# Altium schematic symbol library Device.SchLib: 595 symbols (part 4 of 4)
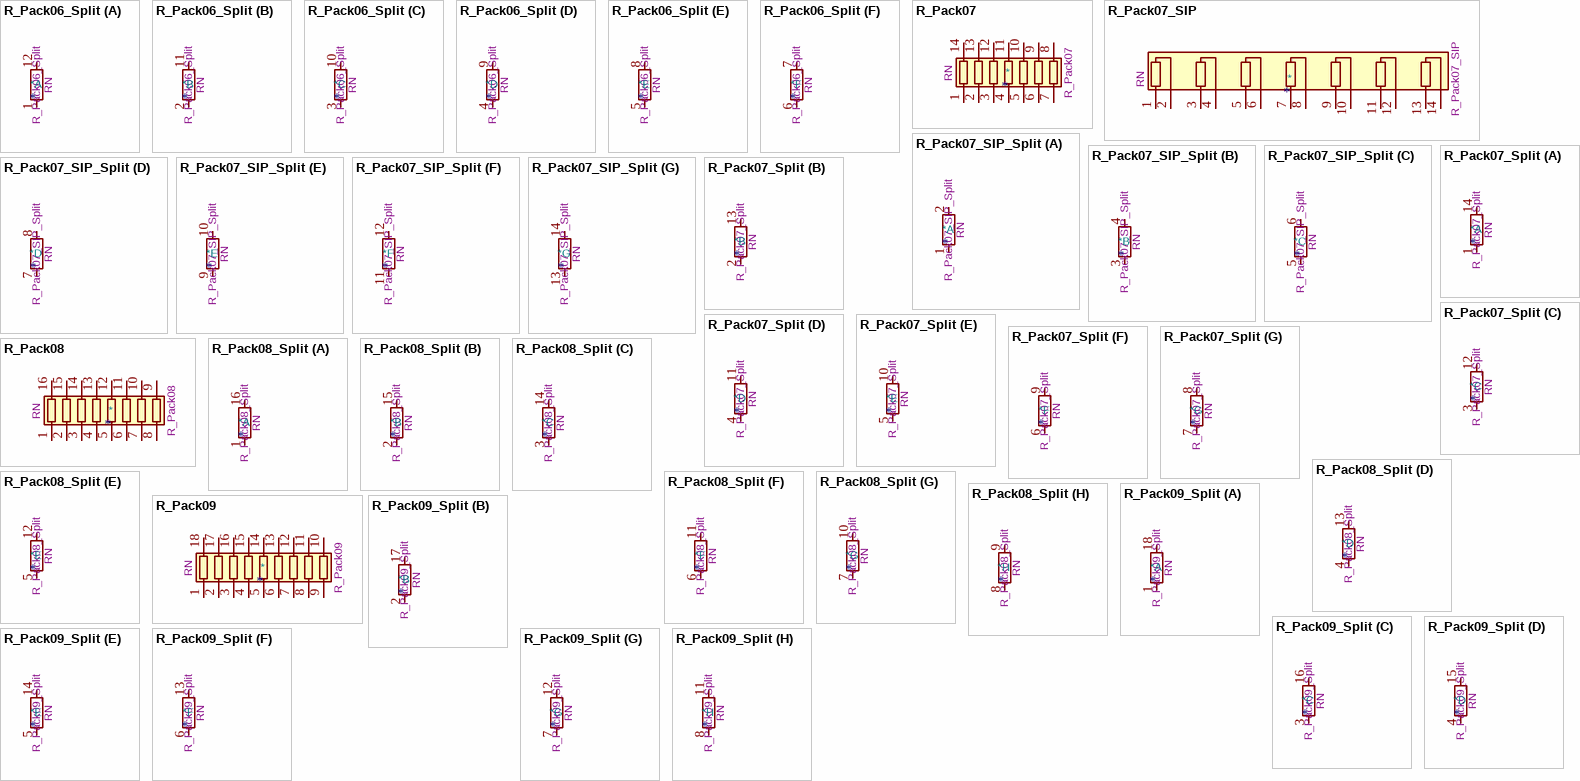
[diagram p23: symbols R_Pack06_Split to R_Pack09_Split]

## R_Pack07_SIP
designator *  value R_Pack07_SIP  Reference: RN
7 resistor network, parallel topology, SIP package; ki_keywords: R network parallel topology isolated; ki_fp_filters: R?Array?SIP*; Footprint: Resistor_THT:R_Array_SIP14; Datasheet: http://www.vishay.com/docs/31509/csc.pdf; Description_: 7 resistor network, parallel topology, SIP package
pins: 1 R1.1, 2 R1.2, 3 R2.1, 4 R2.2, 5 R3.1, 6 R3.2, 7 R4.1, 8 R4.2, 9 R5.1, 10 R5.2, 11 R6.1, 12 R6.2, 13 R7.1, 14 R7.2

## R_Pack07_SIP_Split
designator *  value R_Pack07_SIP_Split  Reference: RN
7 resistor network, parallel topology, SIP package, split; ki_keywords: R network parallel topology isolated; ki_fp_filters: R?Array?SIP*; Footprint: Resistor_THT:R_Array_SIP14; Datasheet: http://www.vishay.com/docs/31509/csc.pdf; Description_: 7 resistor network, parallel topology, SIP package, split
part A pins: 1 R1.1, 2 R1.2
part B pins: 3 R2.1, 4 R2.2
part C pins: 5 R3.1, 6 R3.2
part D pins: 7 R4.1, 8 R4.2
part E pins: 9 R5.1, 10 R5.2
part F pins: 11 R6.1, 12 R6.2
part G pins: 13 R7.1, 14 R7.2

## R_Pack07_Split
designator *  value R_Pack07_Split  Reference: RN
7 resistor network, parallel topology, split; ki_keywords: R network parallel topology isolated; ki_fp_filters: DIP* SOIC* R*Array*Concave* R*Array*Convex*; Datasheet: ~; Description_: 7 resistor network, parallel topology, split
part A pins: 1 R1.1, 14 R1.2
part B pins: 2 R2.1, 13 R2.2
part C pins: 3 R3.1, 12 R3.2
part D pins: 4 R4.1, 11 R4.2
part E pins: 5 R5.1, 10 R5.2
part F pins: 6 R6.1, 9 R6.2
part G pins: 7 R7.1, 8 R7.2

## R_Pack08
designator *  value R_Pack08  Reference: RN
8 resistor network, parallel topology; ki_keywords: R network parallel topology isolated; ki_fp_filters: DIP* SOIC* R*Array*Concave* R*Array*Convex*; Datasheet: ~; Description_: 8 resistor network, parallel topology
pins: 1 R1.1, 2 R2.1, 3 R3.1, 4 R4.1, 5 R5.1, 6 R6.1, 7 R7.1, 8 R8.1, 9 R8.2, 10 R7.2, 11 R6.2, 12 R5.2, 13 R4.2, 14 R3.2, 15 R2.2, 16 R1.2

## R_Pack08_Split
designator *  value R_Pack08_Split  Reference: RN
8 resistor network, parallel topology, split; ki_keywords: R network parallel topology isolated; ki_fp_filters: DIP* SOIC* R*Array*Concave* R*Array*Convex*; Datasheet: ~; Description_: 8 resistor network, parallel topology, split
part A pins: 1 R1.1, 16 R1.2
part B pins: 2 R2.1, 15 R2.2
part C pins: 3 R3.1, 14 R3.2
part D pins: 4 R4.1, 13 R4.2
part E pins: 5 R5.1, 12 R5.2
part F pins: 6 R6.1, 11 R6.2
part G pins: 7 R7.1, 10 R7.2
part H pins: 8 R8.1, 9 R8.2

## R_Pack09
designator *  value R_Pack09  Reference: RN
9 resistor network, parallel topology; ki_keywords: R network parallel topology isolated; ki_fp_filters: DIP* SOIC* R*Array*Concave* R*Array*Convex*; Datasheet: ~; Description_: 9 resistor network, parallel topology
pins: 1 R1.1, 2 R2.1, 3 R3.1, 4 R4.1, 5 R5.1, 6 R6.1, 7 R7.1, 8 R8.1, 9 R9.1, 10 R9.2, 11 R8.2, 12 R7.2, 13 R6.2, 14 R5.2, 15 R4.2, 16 R3.2, 17 R2.2, 18 R1.2

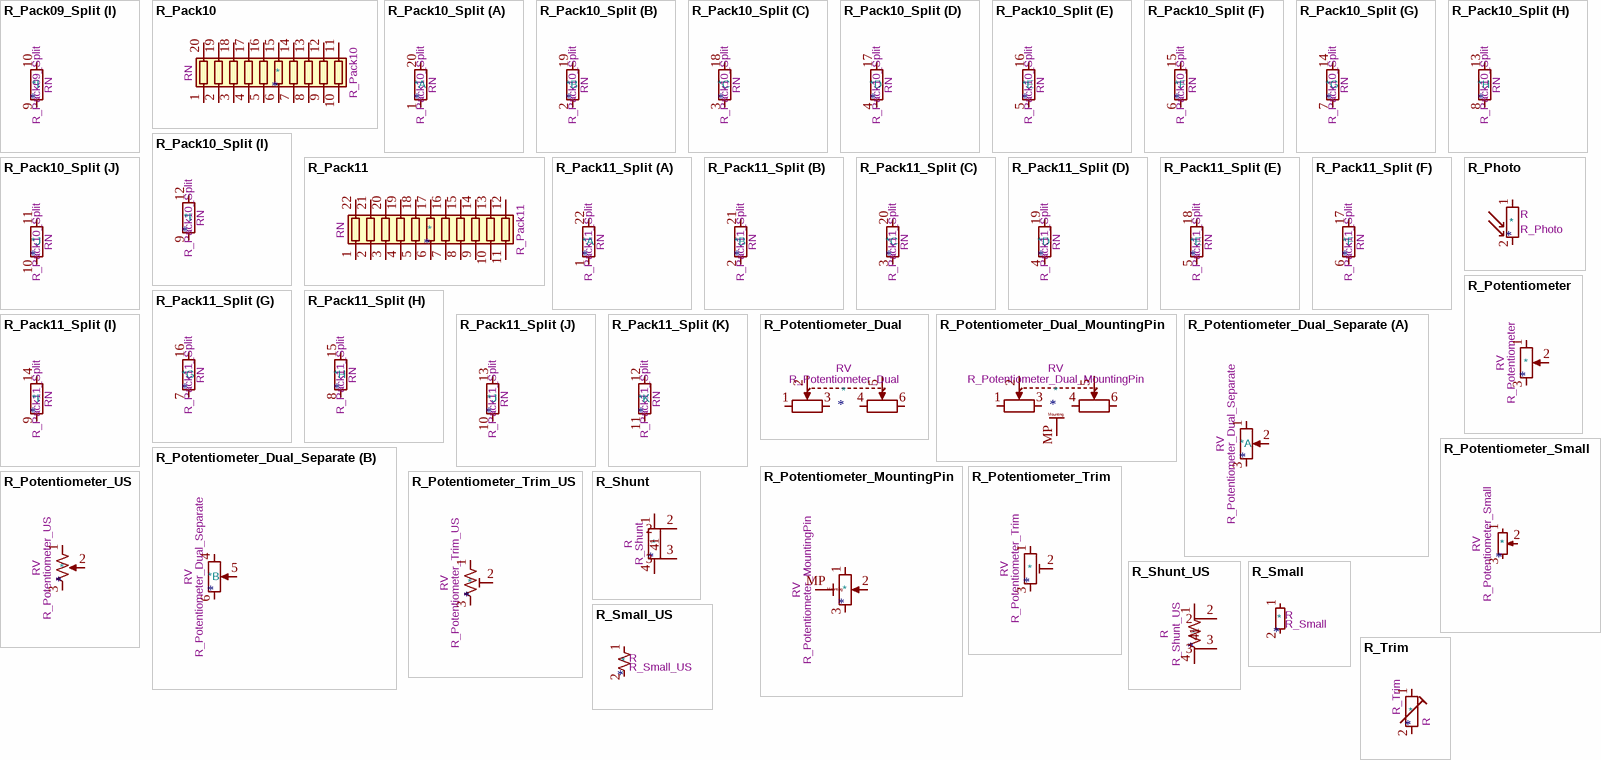
[diagram p18: symbols R_Pack09_Split to R_Trim]

## R_Pack09_Split
designator *  value R_Pack09_Split  Reference: RN
9 resistor network, parallel topology, split; ki_keywords: R network parallel topology isolated; ki_fp_filters: DIP* SOIC* R*Array*Concave* R*Array*Convex*; Datasheet: ~; Description_: 9 resistor network, parallel topology, split
part A pins: 1 R1.1, 18 R1.2
part B pins: 2 R2.1, 17 R2.2
part C pins: 3 R3.1, 16 R3.2
part D pins: 4 R4.1, 15 R4.2
part E pins: 5 R5.1, 14 R5.2
part F pins: 6 R6.1, 13 R6.2
part G pins: 7 R7.1, 12 R7.2
part H pins: 8 R8.1, 11 R8.2
part I pins: 9 R9.1, 10 R9.2

## R_Pack10
designator *  value R_Pack10  Reference: RN
10 resistor network, parallel topology; ki_keywords: R network parallel topology isolated; ki_fp_filters: DIP* SOIC* R*Array*Concave* R*Array*Convex*; Datasheet: ~; Description_: 10 resistor network, parallel topology
pins: 1 R1.1, 2 R2.1, 3 R3.1, 4 R4.1, 5 R5.1, 6 R6.1, 7 R7.1, 8 R8.1, 9 R9.1, 10 R10.1, 11 R10.2, 12 R9.2, 13 R8.2, 14 R7.2, 15 R6.2, 16 R5.2, 17 R4.2, 18 R3.2, 19 R2.2, 20 R1.2

## R_Pack10_Split
designator *  value R_Pack10_Split  Reference: RN
10 resistor network, parallel topology, split; ki_keywords: R network parallel topology isolated; ki_fp_filters: DIP* SOIC* R*Array*Concave* R*Array*Convex*; Datasheet: ~; Description_: 10 resistor network, parallel topology, split
part A pins: 1 R1.1, 20 R1.2
part B pins: 2 R2.1, 19 R2.2
part C pins: 3 R3.1, 18 R3.2
part D pins: 4 R4.1, 17 R4.2
part E pins: 5 R5.1, 16 R5.2
part F pins: 6 R6.1, 15 R6.2
part G pins: 7 R7.1, 14 R7.2
part H pins: 8 R8.1, 13 R8.2
part I pins: 9 R9.1, 12 R9.2
part J pins: 10 R10.1, 11 R10.2

## R_Pack11
designator *  value R_Pack11  Reference: RN
11 resistor network, parallel topology; ki_keywords: R network parallel topology isolated; ki_fp_filters: DIP* SOIC* R*Array*Concave* R*Array*Convex*; Datasheet: ~; Description_: 11 resistor network, parallel topology
pins: 1 R1.1, 2 R2.1, 3 R3.1, 4 R4.1, 5 R5.1, 6 R6.1, 7 R7.1, 8 R8.1, 9 R9.1, 10 R10.1, 11 R11.1, 12 R11.2, 13 R10.2, 14 R9.2, 15 R8.2, 16 R7.2, 17 R6.2, 18 R5.2, 19 R4.2, 20 R3.2, 21 R2.2, 22 R1.2

## R_Pack11_Split
designator *  value R_Pack11_Split  Reference: RN
11 resistor network, parallel topology, split; ki_keywords: R network parallel topology isolated; ki_fp_filters: DIP* SOIC* R*Array*Concave* R*Array*Convex*; Datasheet: ~; Description_: 11 resistor network, parallel topology, split
part A pins: 1 R1.1, 22 R1.2
part B pins: 2 R2.1, 21 R2.2
part C pins: 3 R3.1, 20 R3.2
part D pins: 4 R4.1, 19 R4.2
part E pins: 5 R5.1, 18 R5.2
part F pins: 6 R6.1, 17 R6.2
part G pins: 7 R7.1, 16 R7.2
part H pins: 8 R8.1, 15 R8.2
part I pins: 9 R9.1, 14 R9.2
part J pins: 10 R10.1, 13 R10.2
part K pins: 11 R11.1, 12 R11.2

## R_Photo
designator *  value R_Photo  Reference: R
Photoresistor; ki_keywords: resistor variable light sensitive opto LDR; ki_fp_filters: *LDR* R?LDR*; Datasheet: ~; Description_: Photoresistor
pins: 1, 2

## R_Potentiometer
designator *  value R_Potentiometer  Reference: RV
Potentiometer; ki_keywords: resistor variable; ki_fp_filters: Potentiometer*; Datasheet: ~; Description_: Potentiometer
pins: 1, 2, 3

## R_Potentiometer_Dual
designator *  value R_Potentiometer_Dual  Reference: RV
Dual potentiometer; ki_keywords: resistor variable; ki_fp_filters: Potentiometer*; Datasheet: ~; Description_: Dual potentiometer
pins: 1, 2, 3, 4, 5, 6

## R_Potentiometer_Dual_MountingPin
designator *  value R_Potentiometer_Dual_MountingPin  Reference: RV
Dual potentiometer with a mounting pin; ki_keywords: resistor variable; ki_fp_filters: Potentiometer*; Datasheet: ~; Description_: Dual potentiometer with a mounting pin
pins: 1, 2, 3, 4, 5, 6, MP MountPin
text: Mounting

## R_Potentiometer_Dual_Separate
designator *  value R_Potentiometer_Dual_Separate  Reference: RV
Dual potentiometer, separate units; ki_keywords: resistor variable; ki_fp_filters: Potentiometer*; Datasheet: ~; Description_: Dual potentiometer, separate units
part A pins: 1, 2, 3
part B pins: 4, 5, 6

## R_Potentiometer_MountingPin
designator *  value R_Potentiometer_MountingPin  Reference: RV
Potentiometer with a mounting pin; ki_keywords: resistor variable; ki_fp_filters: Potentiometer*; Datasheet: ~; Description_: Potentiometer with a mounting pin
pins: 1, 2, 3, MP MountPin
text: Mounting

## R_Potentiometer_Small
designator *  value R_Potentiometer_Small  Reference: RV
Potentiometer; ki_keywords: resistor variable; ki_fp_filters: Potentiometer*; Datasheet: ~; Description_: Potentiometer
pins: 1, 2, 3

## R_Potentiometer_Trim
designator *  value R_Potentiometer_Trim  Reference: RV
Trim-potentiometer; ki_keywords: resistor variable trimpot trimmer; ki_fp_filters: Potentiometer*; Datasheet: ~; Description_: Trim-potentiometer
pins: 1, 2, 3

## R_Potentiometer_Trim_US
designator *  value R_Potentiometer_Trim_US  Reference: RV
Trim-potentiometer, US symbol; ki_keywords: resistor variable trimpot trimmer; ki_fp_filters: Potentiometer*; Datasheet: ~; Description_: Trim-potentiometer, US symbol
pins: 1, 2, 3

## R_Potentiometer_US
designator *  value R_Potentiometer_US  Reference: RV
Potentiometer, US symbol; ki_keywords: resistor variable; ki_fp_filters: Potentiometer*; Datasheet: ~; Description_: Potentiometer, US symbol
pins: 1, 2, 3

## R_Shunt
designator *  value R_Shunt  Reference: R
Shunt resistor; ki_keywords: R res shunt resistor; ki_fp_filters: R_*Shunt*; Datasheet: ~; Description_: Shunt resistor
pins: 1, 2, 3, 4

## R_Shunt_US
designator *  value R_Shunt_US  Reference: R
Shunt resistor, US symbol; ki_keywords: R res shunt resistor; ki_fp_filters: R_*Shunt*; Datasheet: ~; Description_: Shunt resistor, US symbol
pins: 1, 2, 3, 4

## R_Small
designator *  value R_Small  Reference: R
Resistor, small symbol; ki_keywords: R resistor; ki_fp_filters: R_*; Datasheet: ~; Description_: Resistor, small symbol
pins: 1, 2

## R_Small_US
designator *  value R_Small_US  Reference: R
Resistor, small US symbol; ki_keywords: r resistor; ki_fp_filters: R_*; Datasheet: ~; Description_: Resistor, small US symbol
pins: 1, 2

## R_Trim
designator *  value R_Trim  Reference: R
Trimmable resistor (preset resistor); ki_keywords: R res resistor variable potentiometer trimmer; ki_fp_filters: R_*; Datasheet: ~; Description_: Trimmable resistor (preset resistor)
pins: 1, 2

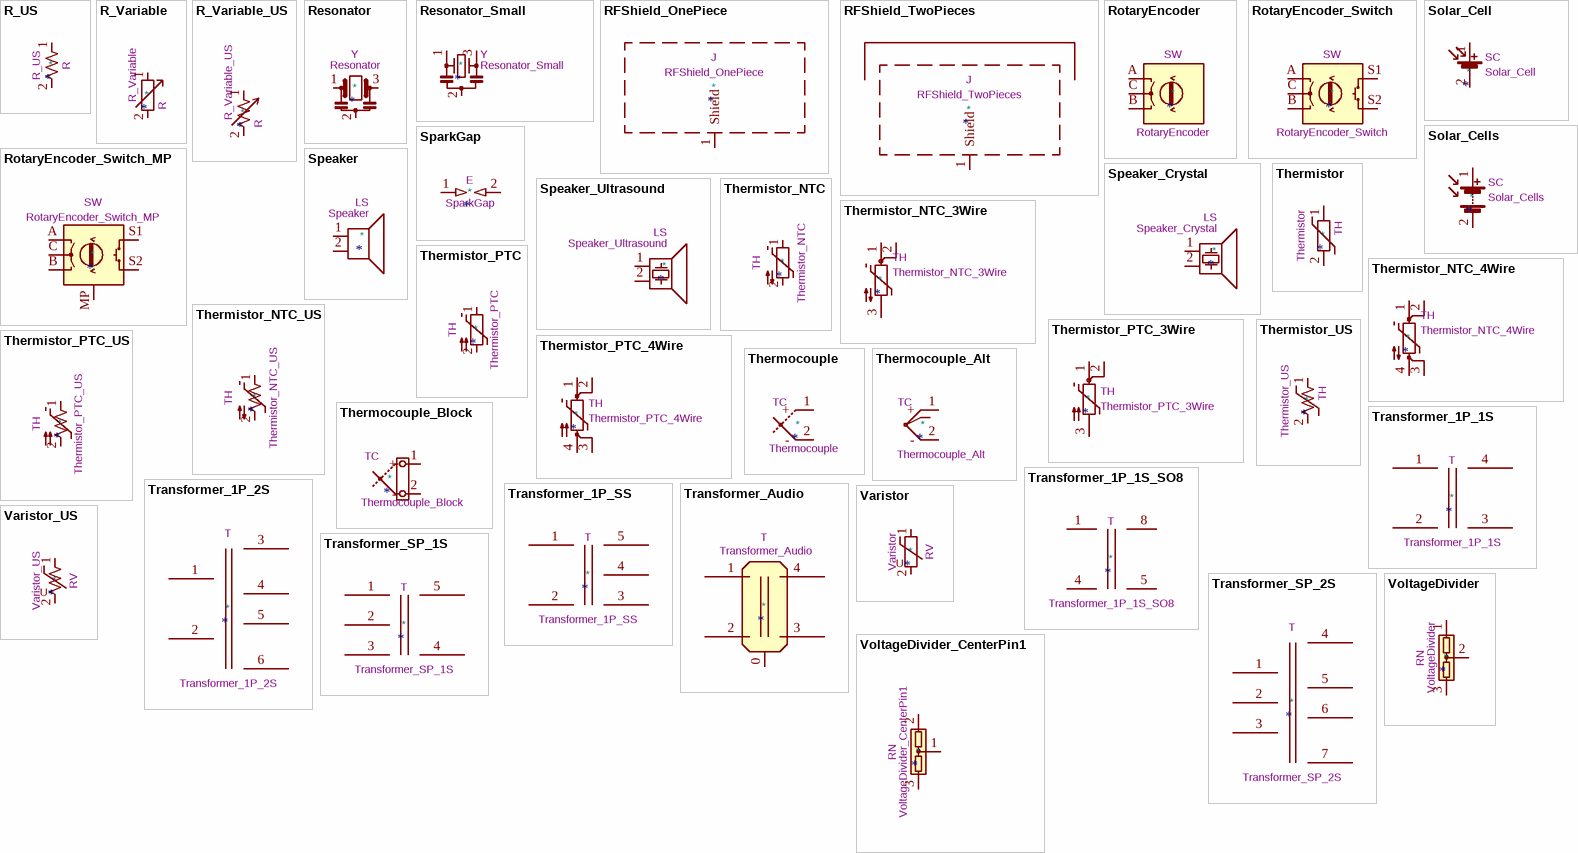
[diagram p19: symbols R_US to VoltageDivider_CenterPin1]

## R_US
designator *  value R_US  Reference: R
Resistor, US symbol; ki_keywords: R res resistor; ki_fp_filters: R_*; Datasheet: ~; Description_: Resistor, US symbol
pins: 1, 2

## R_Variable
designator *  value R_Variable  Reference: R
Variable resistor; ki_keywords: R res resistor variable potentiometer rheostat; ki_fp_filters: R_*; Datasheet: ~; Description_: Variable resistor
pins: 1, 2

## R_Variable_US
designator *  value R_Variable_US  Reference: R
Variable resistor, US symbol; ki_keywords: R res resistor variable potentiometer rheostat; ki_fp_filters: R_*; Datasheet: ~; Description_: Variable resistor, US symbol
pins: 1, 2

## Resonator
designator *  value Resonator  Reference: Y
Three pin ceramic resonator; ki_fp_filters: Filter* Resonator*; Datasheet: ~; Description_: Three pin ceramic resonator; ki_keywords: ceramic resonator
pins: 1, 2, 3

## Resonator_Small
designator *  value Resonator_Small  Reference: Y
Three pin ceramic resonator, small symbol; ki_fp_filters: Filter* Resonator*; Datasheet: ~; Description_: Three pin ceramic resonator, small symbol; ki_keywords: ceramic resonator
pins: 1, 2, 3

## RFShield_OnePiece
designator *  value RFShield_OnePiece  Reference: J
One-piece EMI RF shielding cabinet; ki_keywords: RF EMI shielding cabinet; Datasheet: ~; Description_: One-piece EMI RF shielding cabinet
pins: 1 Shield

## RFShield_TwoPieces
designator *  value RFShield_TwoPieces  Reference: J
Two-piece EMI RF shielding cabinet; ki_keywords: RF EMI shielding cabinet; Datasheet: ~; Description_: Two-piece EMI RF shielding cabinet
pins: 1 Shield

## RotaryEncoder
designator *  value RotaryEncoder  Reference: SW
Rotary encoder, dual channel, incremental quadrate outputs; ki_keywords: rotary switch encoder; ki_fp_filters: RotaryEncoder*; Datasheet: ~; Description_: Rotary encoder, dual channel, incremental quadrate outputs
pins: A, B, C

## RotaryEncoder_Switch
designator *  value RotaryEncoder_Switch  Reference: SW
Rotary encoder, dual channel, incremental quadrate outputs, with switch; ki_keywords: rotary switch encoder switch push button; ki_fp_filters: RotaryEncoder*Switch*; Datasheet: ~; Description_: Rotary encoder, dual channel, incremental quadrate outputs, with switch
pins: A, B, C, S1, S2

## RotaryEncoder_Switch_MP
designator *  value RotaryEncoder_Switch_MP  Reference: SW
Rotary encoder, dual channel, incremental quadrate outputs, with switch and MP Pin; ki_keywords: rotary switch encoder switch push button; ki_fp_filters: RotaryEncoder*Switch*; Datasheet: ~; Description_: Rotary encoder, dual channel, incremental quadrate outputs, with switch and MP Pin
pins: A, B, C, MP, S1, S2

## Solar_Cell
designator *  value Solar_Cell  Reference: SC
Single solar cell; Datasheet: ~; Description_: Single solar cell; ki_keywords: solar cell
pins: 1 +, 2 -

## Solar_Cells
designator *  value Solar_Cells  Reference: SC
Multiple solar cells; Datasheet: ~; Description_: Multiple solar cells; ki_keywords: solar cell
pins: 1 +, 2 -

## SparkGap
designator *  value SparkGap  Reference: E
Spark gap; ki_keywords: spark gap ESD electrostatic suppression; ki_fp_filters: SG*; Datasheet: ~; Description_: Spark gap
pins: 1, 2

## Speaker
designator *  value Speaker  Reference: LS
Speaker; ki_keywords: speaker sound; Datasheet: ~; Description_: Speaker
pins: 1, 2

## Speaker_Crystal
designator *  value Speaker_Crystal  Reference: LS
Crystal speaker/transducer; ki_keywords: crystal speaker ultrasonic transducer; Datasheet: ~; Description_: Crystal speaker/transducer
pins: 1, 2

## Speaker_Ultrasound
designator *  value Speaker_Ultrasound  Reference: LS
Ultrasonic transducer; ki_keywords: crystal speaker ultrasonic transducer; Datasheet: ~; Description_: Ultrasonic transducer
pins: 1, 2

## Thermistor
designator *  value Thermistor  Reference: TH
Temperature dependent resistor; ki_keywords: R res thermistor; ki_fp_filters: R_*; Datasheet: ~; Description_: Temperature dependent resistor
pins: 1, 2

## Thermistor_NTC
designator *  value Thermistor_NTC  Reference: TH
Temperature dependent resistor, negative temperature coefficient; ki_keywords: thermistor NTC resistor sensor RTD; ki_fp_filters: *NTC* *Thermistor* PIN?ARRAY* bornier* *Terminal?Block* R_*; Datasheet: ~; Description_: Temperature dependent resistor, negative temperature coefficient
pins: 1, 2

## Thermistor_NTC_3Wire
designator *  value Thermistor_NTC_3Wire  Reference: TH
Temperature dependent resistor, negative temperature coefficient, 3-wire interface; ki_keywords: thermistor NTC resistor sensor RTD; ki_fp_filters: *NTC* *Thermistor* PIN?ARRAY* bornier* *Terminal?Block*; Datasheet: ~; Description_: Temperature dependent resistor, negative temperature coefficient, 3-wire interface
pins: 1, 2, 3

## Thermistor_NTC_4Wire
designator *  value Thermistor_NTC_4Wire  Reference: TH
Temperature dependent resistor, negative temperature coefficient, 4-wire interface; ki_keywords: thermistor NTC resistor sensor RTD; ki_fp_filters: *NTC* *Thermistor* PIN?ARRAY* bornier* *Terminal?Block*; Datasheet: ~; Description_: Temperature dependent resistor, negative temperature coefficient, 4-wire interface
pins: 1, 2, 3, 4

## Thermistor_NTC_US
designator *  value Thermistor_NTC_US  Reference: TH
Temperature dependent resistor, negative temperature coefficient, US symbol; ki_keywords: thermistor NTC resistor sensor RTD; ki_fp_filters: *NTC* *Thermistor* PIN?ARRAY* bornier* *Terminal?Block* R_*; Datasheet: ~; Description_: Temperature dependent resistor, negative temperature coefficient, US symbol
pins: 1, 2

## Thermistor_PTC
designator *  value Thermistor_PTC  Reference: TH
Temperature dependent resistor, positive temperature coefficient; ki_keywords: resistor PTC thermistor sensor RTD; ki_fp_filters: *PTC* *Thermistor* PIN?ARRAY* bornier* *Terminal?Block* R_*; Datasheet: ~; Description_: Temperature dependent resistor, positive temperature coefficient
pins: 1, 2

## Thermistor_PTC_3Wire
designator *  value Thermistor_PTC_3Wire  Reference: TH
Temperature dependent resistor, positive temperature coefficient, 3-wire interface; ki_keywords: resistor PTC thermistor sensor RTD; ki_fp_filters: PIN_ARRAY_3X1 bornier3 TerminalBlock*3pol; Datasheet: ~; Description_: Temperature dependent resistor, positive temperature coefficient, 3-wire interface
pins: 1, 2, 3

## Thermistor_PTC_4Wire
designator *  value Thermistor_PTC_4Wire  Reference: TH
Temperature dependent resistor, positive temperature coefficient, 4-wire interface; ki_keywords: resistor PTC thermistor sensor RTD; ki_fp_filters: PIN_ARRAY_4X1 bornier4 TerminalBlock*4pol; Datasheet: ~; Description_: Temperature dependent resistor, positive temperature coefficient, 4-wire interface
pins: 1, 2, 3, 4

## Thermistor_PTC_US
designator *  value Thermistor_PTC_US  Reference: TH
Temperature dependent resistor, positive temperature coefficient, US symbol; ki_keywords: resistor PTC thermistor sensor RTD; ki_fp_filters: *PTC* *Thermistor* PIN?ARRAY* bornier* *Terminal?Block* R_*; Datasheet: ~; Description_: Temperature dependent resistor, positive temperature coefficient, US symbol
pins: 1, 2

## Thermistor_US
designator *  value Thermistor_US  Reference: TH
Thermistor, temperature dependent resistor, US symbol; ki_keywords: R res thermistor; ki_fp_filters: R_*; Datasheet: ~; Description_: Thermistor, temperature dependent resistor, US symbol
pins: 1, 2

## Thermocouple
designator *  value Thermocouple  Reference: TC
Thermocouple; ki_keywords: thermocouple temperature sensor cold junction; ki_fp_filters: PIN?ARRAY* bornier* *Terminal?Block* Thermo*Couple*; Datasheet: ~; Description_: Thermocouple
pins: 1 +, 2 -

## Thermocouple_Alt
designator *  value Thermocouple_Alt  Reference: TC
Thermocouple with connector block; ki_keywords: thermocouple temperature sensor cold junction; ki_fp_filters: PIN?ARRAY* bornier* *Terminal?Block* Thermo*Couple*; Datasheet: ~; Description_: Thermocouple with connector block
pins: 1 +, 2 -

## Thermocouple_Block
designator *  value Thermocouple_Block  Reference: TC
Thermocouple with isothermal block; ki_keywords: thermocouple temperature sensor cold junction; ki_fp_filters: PIN?ARRAY* bornier* *Terminal?Block* Thermo*Couple*; Datasheet: ~; Description_: Thermocouple with isothermal block
pins: 1 +, 2 -

## Transformer_1P_1S
designator *  value Transformer_1P_1S  Reference: T
Transformer, single primary, single secondary; ki_keywords: transformer coil magnet; Datasheet: ~; Description_: Transformer, single primary, single secondary
pins: 1 AA, 2 AB, 3 SA, 4 SB

## Transformer_1P_1S_SO8
designator *  value Transformer_1P_1S_SO8  Reference: T
Transformer, single primary, single secondary, SO-8 package; ki_keywords: transformer coil magnet; Datasheet: ~; Description_: Transformer, single primary, single secondary, SO-8 package
pins: 1 AA, 4 AB, 5 SA, 8 SB

## Transformer_1P_2S
designator *  value Transformer_1P_2S  Reference: T
Transformer, single primary, dual secondary; ki_keywords: transformer coil magnet; Datasheet: ~; Description_: Transformer, single primary, dual secondary
pins: 1 AA, 2 AB, 3 SA, 4 SB, 5 SC, 6 SD

## Transformer_1P_SS
designator *  value Transformer_1P_SS  Reference: T
Transformer, single primary, split secondary; ki_keywords: transformer coil magnet; Datasheet: ~; Description_: Transformer, single primary, split secondary
pins: 1 AA, 2 AB, 3 SA, 4 SC, 5 SB

## Transformer_Audio
designator *  value Transformer_Audio  Reference: T
Audio transformer; ki_keywords: transformer coil magnet sound; Datasheet: ~; Description_: Audio transformer
pins: 0, 1 AA, 2 AB, 3 SA, 4 SB

## Transformer_SP_1S
designator *  value Transformer_SP_1S  Reference: T
Transformer, split primary, single secondary; ki_keywords: transformer coil magnet; Datasheet: ~; Description_: Transformer, split primary, single secondary
pins: 1 PR1, 2 PM, 3 PR2, 4 S1, 5 S2

## Transformer_SP_2S
designator *  value Transformer_SP_2S  Reference: T
Transformer, split primary, dual secondary; ki_keywords: transformer coil magnet; Datasheet: ~; Description_: Transformer, split primary, dual secondary
pins: 1 IN+, 2 PM, 3 IN-, 4 OUT1A, 5 OUT1B, 6 OUT2A, 7 OUT2B

## Varistor
designator *  value Varistor  Reference: RV
Voltage dependent resistor; Sim.Name: kicad_builtin_varistor; Sim.Device: SUBCKT; Sim.Pins: 1=A 2=B; Sim.Params: threshold=1k; Sim.Library: ${KICAD7_SYMBOL_DIR}/Simulation_SPICE.sp; ki_keywords: VDR resistance; ki_fp_filters: RV_* Varistor*; Datasheet: ~; Description_: Voltage dependent resistor
pins: 1, 2
text: U

## Varistor_US
designator *  value Varistor_US  Reference: RV
Voltage dependent resistor, US symbol; Sim.Name: kicad_builtin_varistor; Sim.Device: SUBCKT; Sim.Pins: 1=A 2=B; Sim.Params: threshold=1k; Sim.Library: ${KICAD7_SYMBOL_DIR}/Simulation_SPICE.sp; ki_keywords: VDR resistance; ki_fp_filters: RV_* Varistor*; Datasheet: ~; Description_: Voltage dependent resistor, US symbol
pins: 1, 2
text: U

## VoltageDivider
designator *  value VoltageDivider  Reference: RN
Voltage divider; ki_keywords: R network voltage divider; ki_fp_filters: R?Array?SIP* SOT?23; Datasheet: ~; Description_: Voltage divider
pins: 1, 2, 3

## VoltageDivider_CenterPin1
designator *  value VoltageDivider_CenterPin1  Reference: RN
Voltage divider, center on pin 1; ki_keywords: R network voltage divider; ki_fp_filters: R?Array?SIP* SOT?23; Datasheet: ~; Description_: Voltage divider, center on pin 1
pins: 1, 2, 3

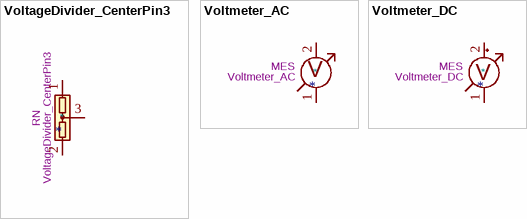
[diagram p20: symbols VoltageDivider_CenterPin3 to Voltmeter_DC]

## VoltageDivider_CenterPin3
designator *  value VoltageDivider_CenterPin3  Reference: RN
Voltage divider, center on pin 3; ki_keywords: R network voltage divider; ki_fp_filters: R?Array?SIP* SOT?23; Datasheet: ~; Description_: Voltage divider, center on pin 3
pins: 1, 2, 3

## Voltmeter_AC
designator *  value Voltmeter_AC  Reference: MES
AC voltmeter; ki_keywords: voltmeter AC; Datasheet: ~; Description_: AC voltmeter
pins: 1, 2
text: V

## Voltmeter_DC
designator *  value Voltmeter_DC  Reference: MES
DC voltmeter; ki_keywords: voltmeter DC; Datasheet: ~; Description_: DC voltmeter
pins: 1 -, 2 +
text: V